# Altium schematic symbol library ADR292.SchLib: 2 symbols
Pins are listed as number, name and electrical type; pins without a type are passive.

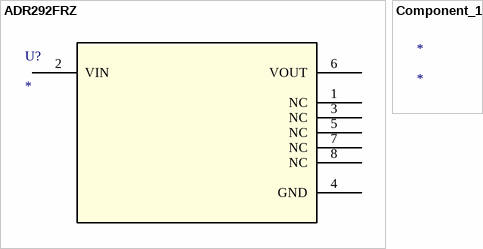
[diagram p0: symbols ADR292FRZ to Component_1]

## ADR292FRZ
designator U?
Imported; Manufacturer_Part_Number: ADR292FRZ; Vendor: Vendor; Value: Value; Type: Type; RefDes: Refdes
footprint R_8
pins: 1 NC, 2 VIN, 3 NC, 4 GND, 5 NC, 6 VOUT, 7 NC, 8 NC

## Component_1
designator *